# Altium integrated library ISSI SRAM CellularRAM-Pseudo SRAM.IntLib: 34 symbols (part 2 of 2)
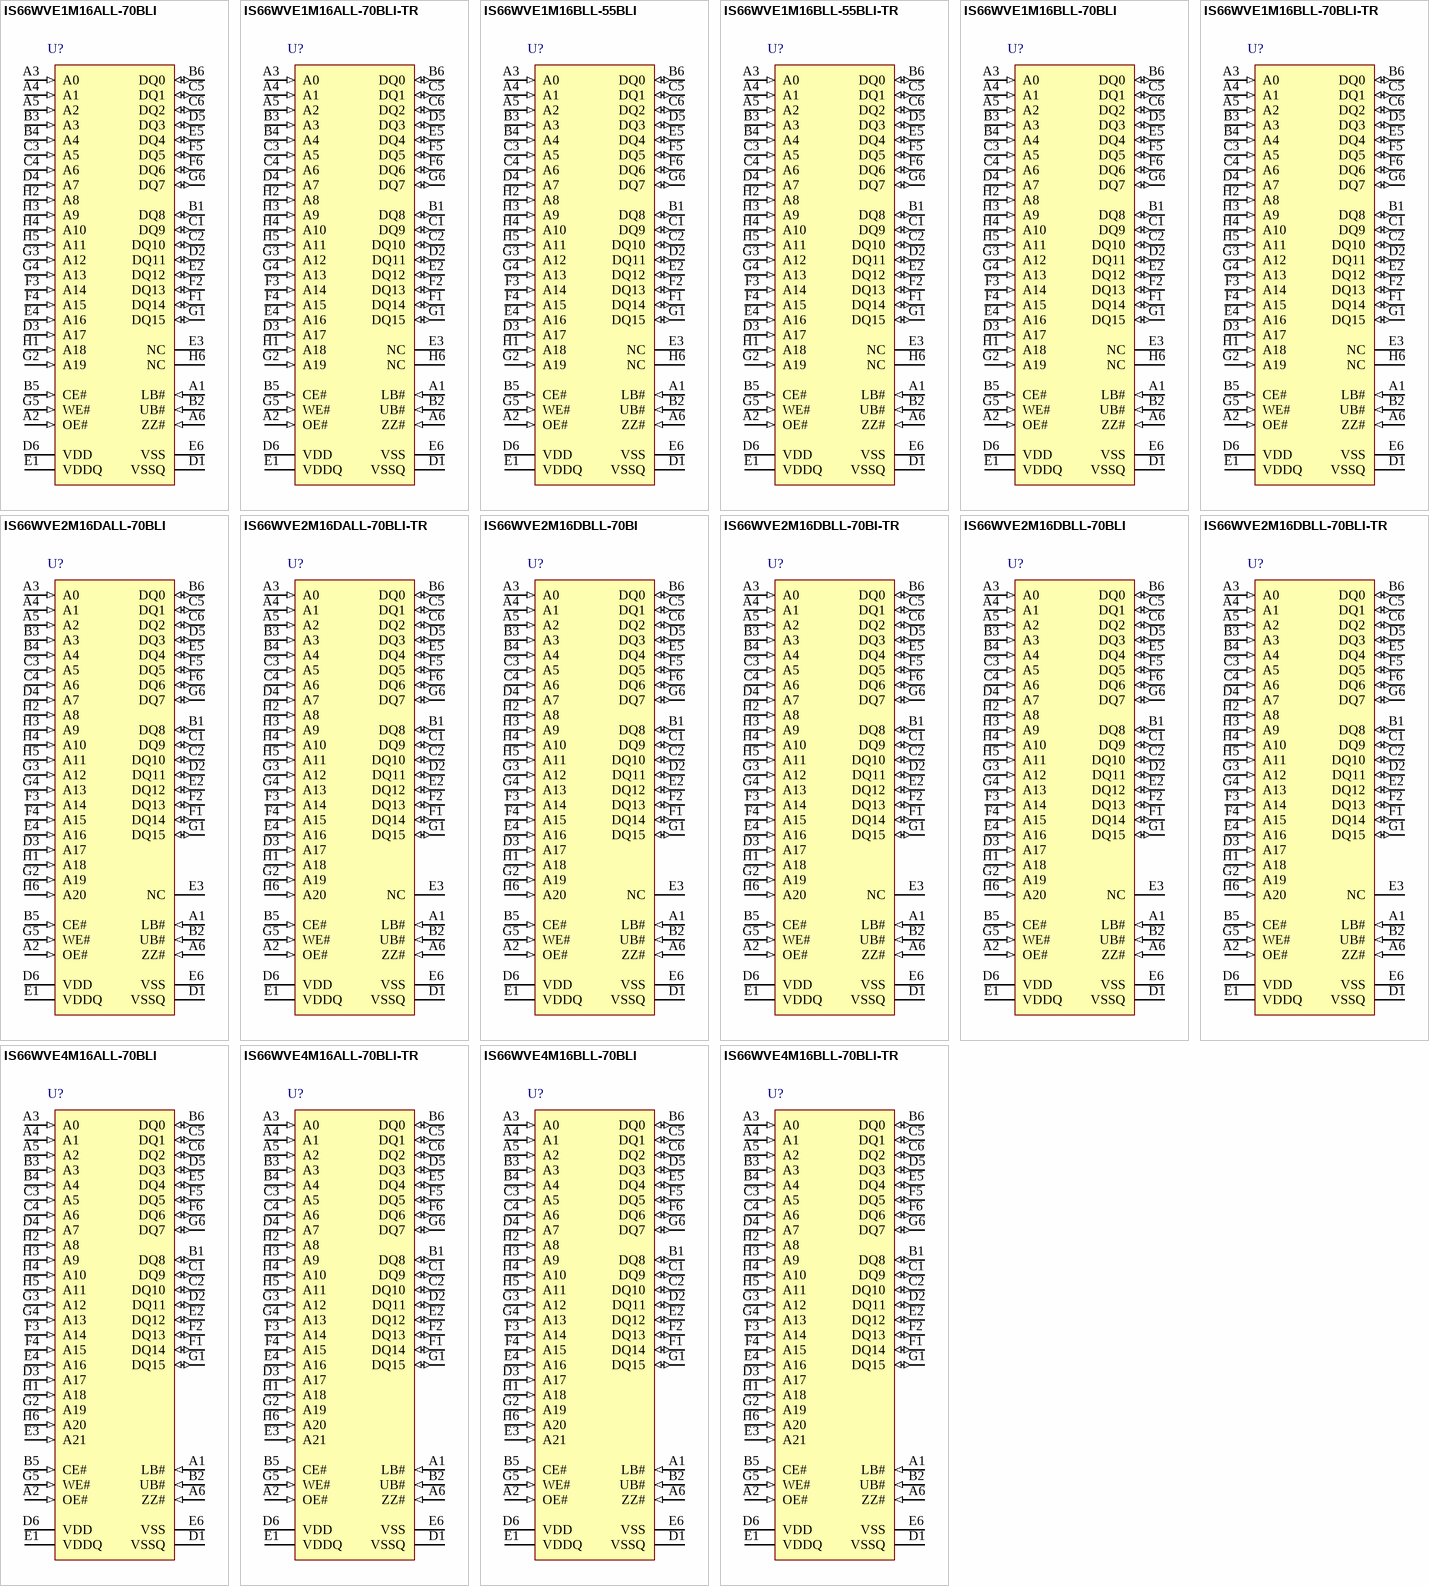
[diagram p2: symbols IS66WVE1M16ALL-70BLI to IS66WVE4M16BLL-70BLI-TR]

## IS66WVE1M16ALL-70BLI-TR
designator U?
16 M 1.8 V Core Async / Page PSRAM, 1 M x 16, -40 to 85 degC, 48-Pin BGA (TF-BGA-48), Pb-Free; Manufacturer: Integrated Silicon Solution Inc (ISSI); PartNumber: IS66WVE1M16ALL-70BLI-TR; Density: 16M; Organization: 1M x 16; Packing: Tape & Reel; Speed (ns): 70; DatasheetVersion: Rev. C; PackageVersion: Rev. C, 08/2008; PackageReference: TF-BGA-48; PackageDescription: 48-Pin 6 x 8 mm TF-BGA, Pitch 0.75 mm; RoHS: Pb-Free; Mounting Technology: Surface Mount; Code_JEDEC: MO-207; ComponentLink1Description: Manufacturer URL; ComponentLink1URL: http://www.issi.com/US/index.shtml; ComponentLink2Description: Datasheet; ComponentLink2URL: http://www.issi.com/WW/pdf/66WVE1M16ALL.pdf; ComponentLink3Description: Package Specification; ComponentLink3URL: http://www.issi.com/WW/pdf/61-64WV25616.pdf
footprint ISSI-TF-BGA-48-6000X8000DE (BGA, 48-Balls, Body 8x6mm, Pitch 0.75mm)
pins: A1 LB# (in) "Lower Byte select", A2 OE# (in) "Output Enable", A3 A0 (in) "Address Input", A4 A1 (in) "Address Input", A5 A2 (in) "Address Input", A6 ZZ# (in) "Sleep enable : When ZZ# is LOW, the CR can be loaded, or the device can enter one of two low-power modes ( DPD or PAR).", B1 DQ8 (io) "Data Input/Output", B2 UB# (in) "Upper Byte select", B3 A3 (in) "Address Input", B4 A4 (in) "Address Input", B5 CE# (in) "Chip Enable/Select", B6 DQ0 (io) "Data Input/Output", C1 DQ9 (io) "Data Input/Output", C2 DQ10 (io) "Data Input/Output", C3 A5 (in) "Address Input", C4 A6 (in) "Address Input", C5 DQ1 (io) "Data Input/Output", C6 DQ2 (io) "Data Input/Output", D1 VSSQ (power) "All VSSQ supply pins must be connected to Ground", D2 DQ11 (io) "Data Input/Output", D3 A17 (in) "Address Input", D4 A7 (in) "Address Input", D5 DQ3 (io) "Data Input/Output", D6 VDD (power) "Core Power supply (1.7V~1.95V)", E1 VDDQ (power) "I/OPower supply(1.7V~1.95V)", E2 DQ12 (io) "Data Input/Output", E3 NC "No Connection", E4 A16 (in) "Address Input", E5 DQ4 (io) "Data Input/Output", E6 VSS (power) "All VSS supply pins must be connected to Ground", F1 DQ14 (io) "Data Input/Output", F2 DQ13 (io) "Data Input/Output", F3 A14 (in) "Address Input", F4 A15 (in) "Address Input", F5 DQ5 (io) "Data Input/Output", F6 DQ6 (io) "Data Input/Output", G1 DQ15 (io) "Data Input/Output", G2 A19 (in) "Address Input", G3 A12 (in) "Address Input", G4 A13 (in) "Address Input", G5 WE# (in) "Write Enable", G6 DQ7 (io) "Data Input/Output", H1 A18 (in) "Address Input", H2 A8 (in) "Address Input", H3 A9 (in) "Address Input", H4 A10 (in) "Address Input", H5 A11 (in) "Address Input", H6 NC "No Connection"

## IS66WVE1M16BLL-55BLI
designator U?
16 M 3.0 V Core Async / Page PSRAM, 1 M x 16, -40 to 85 degC, 48-Pin BGA (TF-BGA-48), Pb-Free; Manufacturer: Integrated Silicon Solution Inc (ISSI); PartNumber: IS66WVE1M16BLL-55BLI; Density: 16M; Organization: 1M x 16; Packing: Tray / Tube; Speed (ns): 55; DatasheetVersion: Rev. A; PackageVersion: Rev. C, 08/2008; PackageReference: TF-BGA-48; PackageDescription: 48-Pin 6 x 8 mm TF-BGA, Pitch 0.75 mm; Supplier 1: Newark; Supplier Part Number 1: 18W6962; Supplier 2: Mouser; Supplier Part Number 2: 870-66VE1M16BLL55BLI; RoHS: Pb-Free; Mounting Technology: Surface Mount; Code_JEDEC: MO-207; ComponentLink1Description: Manufacturer URL; ComponentLink1URL: http://www.issi.com/US/index.shtml; ComponentLink2Description: Datasheet; ComponentLink2URL: http://www.issi.com/WW/pdf/66WVE1M16BLL.pdf; ComponentLink3Description: Package Specification; ComponentLink3URL: http://www.issi.com/WW/pdf/61-64WV25616.pdf
footprint ISSI-TF-BGA-48-6000X8000DE (BGA, 48-Balls, Body 8x6mm, Pitch 0.75mm)
pins: A1 LB# (in) "Lower Byte select", A2 OE# (in) "Address Input", A3 A0 (in) "Address Input", A4 A1 (in) "Address Input", A5 A2 (in) "Address Input", A6 ZZ# (in) "Sleep enable : When ZZ# is LOW, the CR can be loaded, or the device can enter one of two low-power modes ( DPD or PAR).", B1 DQ8 (io) "Data Inputs/Outputs", B2 UB# (in) "Upper Byte select", B3 A3 (in) "Address Input", B4 A4 (in) "Address Input", B5 CE# (in) "Chip Enable/Select", B6 DQ0 (io) "Data Inputs/Outputs", C1 DQ9 (io) "Data Inputs/Outputs", C2 DQ10 (io) "Data Inputs/Outputs", C3 A5 (in) "Address Input", C4 A6 (in) "Address Input", C5 DQ1 (io) "Data Inputs/Outputs", C6 DQ2 (io) "Data Inputs/Outputs", D1 VSSQ (power) "All VSSQ supply pins must be connected to Ground", D2 DQ11 (io) "Data Inputs/Outputs", D3 A17 (in) "Address Input", D4 A7 (in) "Address Input", D5 DQ3 (io) "Data Inputs/Outputs", D6 VDD (power) "Core Power supply (2.7V~3.6V)", E1 VDDQ (power) "I/O Power supply (2.7V~3.6V)", E2 DQ12 (io) "Data Inputs/Outputs", E3 NC, E4 A16 (in) "Address Input", E5 DQ4 (io) "Data Inputs/Outputs", E6 VSS (power) "All VSS supply pins must be connected to Ground", F1 DQ14 (io) "Data Inputs/Outputs", F2 DQ13 (io) "Data Inputs/Outputs", F3 A14 (in) "Address Input", F4 A15 (in) "Address Input", F5 DQ5 (io) "Data Inputs/Outputs", F6 DQ6 (io) "Data Inputs/Outputs", G1 DQ15 (io) "Data Inputs/Outputs", G2 A19 (in) "Address Input", G3 A12 (in) "Address Input", G4 A13 (in) "Address Input", G5 WE# (in) "Write Enable", G6 DQ7 (io) "Data Inputs/Outputs", H1 A18 (in) "Address Input", H2 A8 (in) "Address Input", H3 A9 (in) "Address Input", H4 A10 (in) "Address Input", H5 A11 (in) "Address Input", H6 NC

## IS66WVE1M16BLL-55BLI-TR
designator U?
16 M 3.0 V Core Async / Page PSRAM, 1 M x 16, -40 to 85 degC, 48-Pin BGA (TF-BGA-48), Pb-Free; Manufacturer: Integrated Silicon Solution Inc (ISSI); PartNumber: IS66WVE1M16BLL-55BLI-TR; Density: 16M; Organization: 1M x 16; Packing: Tape & Reel; Speed (ns): 55; DatasheetVersion: Rev. A; PackageVersion: Rev. C, 08/2008; PackageReference: TF-BGA-48; PackageDescription: 48-Pin 6 x 8 mm TF-BGA, Pitch 0.75 mm; Supplier 1: Newark; Supplier Part Number 1: 18W6963; Supplier 2: Mouser; Supplier Part Number 2: 870-66WVE1M1655BLITR; RoHS: Pb-Free; Mounting Technology: Surface Mount; Code_JEDEC: MO-207; ComponentLink1Description: Manufacturer URL; ComponentLink1URL: http://www.issi.com/US/index.shtml; ComponentLink2Description: Datasheet; ComponentLink2URL: http://www.issi.com/WW/pdf/66WVE1M16BLL.pdf; ComponentLink3Description: Package Specification; ComponentLink3URL: http://www.issi.com/WW/pdf/61-64WV25616.pdf
footprint ISSI-TF-BGA-48-6000X8000DE (BGA, 48-Balls, Body 8x6mm, Pitch 0.75mm)
pins: A1 LB# (in) "Lower Byte select", A2 OE# (in) "Address Input", A3 A0 (in) "Address Input", A4 A1 (in) "Address Input", A5 A2 (in) "Address Input", A6 ZZ# (in) "Sleep enable : When ZZ# is LOW, the CR can be loaded, or the device can enter one of two low-power modes ( DPD or PAR).", B1 DQ8 (io) "Data Inputs/Outputs", B2 UB# (in) "Upper Byte select", B3 A3 (in) "Address Input", B4 A4 (in) "Address Input", B5 CE# (in) "Chip Enable/Select", B6 DQ0 (io) "Data Inputs/Outputs", C1 DQ9 (io) "Data Inputs/Outputs", C2 DQ10 (io) "Data Inputs/Outputs", C3 A5 (in) "Address Input", C4 A6 (in) "Address Input", C5 DQ1 (io) "Data Inputs/Outputs", C6 DQ2 (io) "Data Inputs/Outputs", D1 VSSQ (power) "All VSSQ supply pins must be connected to Ground", D2 DQ11 (io) "Data Inputs/Outputs", D3 A17 (in) "Address Input", D4 A7 (in) "Address Input", D5 DQ3 (io) "Data Inputs/Outputs", D6 VDD (power) "Core Power supply (2.7V~3.6V)", E1 VDDQ (power) "I/O Power supply (2.7V~3.6V)", E2 DQ12 (io) "Data Inputs/Outputs", E3 NC, E4 A16 (in) "Address Input", E5 DQ4 (io) "Data Inputs/Outputs", E6 VSS (power) "All VSS supply pins must be connected to Ground", F1 DQ14 (io) "Data Inputs/Outputs", F2 DQ13 (io) "Data Inputs/Outputs", F3 A14 (in) "Address Input", F4 A15 (in) "Address Input", F5 DQ5 (io) "Data Inputs/Outputs", F6 DQ6 (io) "Data Inputs/Outputs", G1 DQ15 (io) "Data Inputs/Outputs", G2 A19 (in) "Address Input", G3 A12 (in) "Address Input", G4 A13 (in) "Address Input", G5 WE# (in) "Write Enable", G6 DQ7 (io) "Data Inputs/Outputs", H1 A18 (in) "Address Input", H2 A8 (in) "Address Input", H3 A9 (in) "Address Input", H4 A10 (in) "Address Input", H5 A11 (in) "Address Input", H6 NC

## IS66WVE1M16BLL-70BLI
designator U?
16 M 3.0 V Core Async / Page PSRAM, 1 M x 16, -40 to 85 degC, 48-Pin BGA (TF-BGA-48), Pb-Free; Manufacturer: Integrated Silicon Solution Inc (ISSI); PartNumber: IS66WVE1M16BLL-70BLI; Density: 16M; Organization: 1M x 16; Packing: Tray / Tube; Speed (ns): 70; DatasheetVersion: Rev. A; PackageVersion: Rev. C, 08/2008; PackageReference: TF-BGA-48; PackageDescription: 48-Pin 6 x 8 mm TF-BGA, Pitch 0.75 mm; RoHS: Pb-Free; Mounting Technology: Surface Mount; Code_JEDEC: MO-207; ComponentLink1Description: Manufacturer URL; ComponentLink1URL: http://www.issi.com/US/index.shtml; ComponentLink2Description: Datasheet; ComponentLink2URL: http://www.issi.com/WW/pdf/66WVE1M16BLL.pdf; ComponentLink3Description: Package Specification; ComponentLink3URL: http://www.issi.com/WW/pdf/61-64WV25616.pdf
footprint ISSI-TF-BGA-48-6000X8000DE (BGA, 48-Balls, Body 8x6mm, Pitch 0.75mm)
pins: A1 LB# (in) "Lower Byte select", A2 OE# (in) "Address Input", A3 A0 (in) "Address Input", A4 A1 (in) "Address Input", A5 A2 (in) "Address Input", A6 ZZ# (in) "Sleep enable : When ZZ# is LOW, the CR can be loaded, or the device can enter one of two low-power modes ( DPD or PAR).", B1 DQ8 (io) "Data Inputs/Outputs", B2 UB# (in) "Upper Byte select", B3 A3 (in) "Address Input", B4 A4 (in) "Address Input", B5 CE# (in) "Chip Enable/Select", B6 DQ0 (io) "Data Inputs/Outputs", C1 DQ9 (io) "Data Inputs/Outputs", C2 DQ10 (io) "Data Inputs/Outputs", C3 A5 (in) "Address Input", C4 A6 (in) "Address Input", C5 DQ1 (io) "Data Inputs/Outputs", C6 DQ2 (io) "Data Inputs/Outputs", D1 VSSQ (power) "All VSSQ supply pins must be connected to Ground", D2 DQ11 (io) "Data Inputs/Outputs", D3 A17 (in) "Address Input", D4 A7 (in) "Address Input", D5 DQ3 (io) "Data Inputs/Outputs", D6 VDD (power) "Core Power supply (2.7V~3.6V)", E1 VDDQ (power) "I/O Power supply (2.7V~3.6V)", E2 DQ12 (io) "Data Inputs/Outputs", E3 NC, E4 A16 (in) "Address Input", E5 DQ4 (io) "Data Inputs/Outputs", E6 VSS (power) "All VSS supply pins must be connected to Ground", F1 DQ14 (io) "Data Inputs/Outputs", F2 DQ13 (io) "Data Inputs/Outputs", F3 A14 (in) "Address Input", F4 A15 (in) "Address Input", F5 DQ5 (io) "Data Inputs/Outputs", F6 DQ6 (io) "Data Inputs/Outputs", G1 DQ15 (io) "Data Inputs/Outputs", G2 A19 (in) "Address Input", G3 A12 (in) "Address Input", G4 A13 (in) "Address Input", G5 WE# (in) "Write Enable", G6 DQ7 (io) "Data Inputs/Outputs", H1 A18 (in) "Address Input", H2 A8 (in) "Address Input", H3 A9 (in) "Address Input", H4 A10 (in) "Address Input", H5 A11 (in) "Address Input", H6 NC

## IS66WVE1M16BLL-70BLI-TR
designator U?
16 M 3.0 V Core Async / Page PSRAM, 1 M x 16, -40 to 85 degC, 48-Pin BGA (TF-BGA-48), Pb-Free; Manufacturer: Integrated Silicon Solution Inc (ISSI); PartNumber: IS66WVE1M16BLL-70BLI-TR; Density: 16M; Organization: 1M x 16; Packing: Tape & Reel; Speed (ns): 70; DatasheetVersion: Rev. A; PackageVersion: Rev. C, 08/2008; PackageReference: TF-BGA-48; PackageDescription: 48-Pin 6 x 8 mm TF-BGA, Pitch 0.75 mm; RoHS: Pb-Free; Mounting Technology: Surface Mount; Code_JEDEC: MO-207; ComponentLink1Description: Manufacturer URL; ComponentLink1URL: http://www.issi.com/US/index.shtml; ComponentLink2Description: Datasheet; ComponentLink2URL: http://www.issi.com/WW/pdf/66WVE1M16BLL.pdf; ComponentLink3Description: Package Specification; ComponentLink3URL: http://www.issi.com/WW/pdf/61-64WV25616.pdf
footprint ISSI-TF-BGA-48-6000X8000DE (BGA, 48-Balls, Body 8x6mm, Pitch 0.75mm)
pins: A1 LB# (in) "Lower Byte select", A2 OE# (in) "Address Input", A3 A0 (in) "Address Input", A4 A1 (in) "Address Input", A5 A2 (in) "Address Input", A6 ZZ# (in) "Sleep enable : When ZZ# is LOW, the CR can be loaded, or the device can enter one of two low-power modes ( DPD or PAR).", B1 DQ8 (io) "Data Inputs/Outputs", B2 UB# (in) "Upper Byte select", B3 A3 (in) "Address Input", B4 A4 (in) "Address Input", B5 CE# (in) "Chip Enable/Select", B6 DQ0 (io) "Data Inputs/Outputs", C1 DQ9 (io) "Data Inputs/Outputs", C2 DQ10 (io) "Data Inputs/Outputs", C3 A5 (in) "Address Input", C4 A6 (in) "Address Input", C5 DQ1 (io) "Data Inputs/Outputs", C6 DQ2 (io) "Data Inputs/Outputs", D1 VSSQ (power) "All VSSQ supply pins must be connected to Ground", D2 DQ11 (io) "Data Inputs/Outputs", D3 A17 (in) "Address Input", D4 A7 (in) "Address Input", D5 DQ3 (io) "Data Inputs/Outputs", D6 VDD (power) "Core Power supply (2.7V~3.6V)", E1 VDDQ (power) "I/O Power supply (2.7V~3.6V)", E2 DQ12 (io) "Data Inputs/Outputs", E3 NC, E4 A16 (in) "Address Input", E5 DQ4 (io) "Data Inputs/Outputs", E6 VSS (power) "All VSS supply pins must be connected to Ground", F1 DQ14 (io) "Data Inputs/Outputs", F2 DQ13 (io) "Data Inputs/Outputs", F3 A14 (in) "Address Input", F4 A15 (in) "Address Input", F5 DQ5 (io) "Data Inputs/Outputs", F6 DQ6 (io) "Data Inputs/Outputs", G1 DQ15 (io) "Data Inputs/Outputs", G2 A19 (in) "Address Input", G3 A12 (in) "Address Input", G4 A13 (in) "Address Input", G5 WE# (in) "Write Enable", G6 DQ7 (io) "Data Inputs/Outputs", H1 A18 (in) "Address Input", H2 A8 (in) "Address Input", H3 A9 (in) "Address Input", H4 A10 (in) "Address Input", H5 A11 (in) "Address Input", H6 NC

## IS66WVE2M16DALL-70BLI
designator U?
32 M 1.8 V Core Async / Page PSRAM, 2 M x 16, -40 to 85 degC, 48-Pin BGA (TF-BGA-48), Pb-Free; Manufacturer: Integrated Silicon Solution Inc (ISSI); PartNumber: IS66WVE2M16DALL-70BLI; Density: 32M; Organization: 2M x 16; Packing: Tray / Tube; Speed (ns): 70; DatasheetVersion: Rev. B; PackageVersion: Rev. C, 08/2008; PackageReference: TF-BGA-48; PackageDescription: 48-Pin 6 x 8 mm TF-BGA, Pitch 0.75 mm; RoHS: Pb-Free; Mounting Technology: Surface Mount; Code_JEDEC: MO-207; ComponentLink1Description: Manufacturer URL; ComponentLink1URL: http://www.issi.com/US/index.shtml; ComponentLink2Description: Datasheet; ComponentLink2URL: http://www.issi.com/WW/pdf/66WVE2M16DALL.pdf; ComponentLink3Description: Package Specification; ComponentLink3URL: http://www.issi.com/WW/pdf/61-64WV25616.pdf
footprint ISSI-TF-BGA-48-6000X8000DE (BGA, 48-Balls, Body 8x6mm, Pitch 0.75mm)
pins: A1 LB# (in) "Lower Byte select", A2 OE# (in) "Address Input", A3 A0 (in) "Address Input", A4 A1 (in) "Address Input", A5 A2 (in) "Address Input", A6 ZZ# (in) "Sleep enable : When ZZ# is LOW, the CR can be loaded, or the device can enter one of two low-power modes ( DPD or PAR).", B1 DQ8 (io) "Data Inputs/Outputs", B2 UB# (in) "Upper Byte select", B3 A3 (in) "Address Input", B4 A4 (in) "Address Input", B5 CE# (in) "Chip Enable/Select", B6 DQ0 (io) "Data Inputs/Outputs", C1 DQ9 (io) "Data Inputs/Outputs", C2 DQ10 (io) "Data Inputs/Outputs", C3 A5 (in) "Address Input", C4 A6 (in) "Address Input", C5 DQ1 (io) "Data Inputs/Outputs", C6 DQ2 (io) "Data Inputs/Outputs", D1 VSSQ (power) "All VSSQ supply pins must be connected to Ground", D2 DQ11 (io) "Data Inputs/Outputs", D3 A17 (in) "Address Input", D4 A7 (in) "Address Input", D5 DQ3 (io) "Data Inputs/Outputs", D6 VDD (power) "Core Power supply (2.7V~3.6V)", E1 VDDQ (power) "I/O Power supply (2.7V~3.6V)", E2 DQ12 (io) "Data Inputs/Outputs", E3 NC, E4 A16 (in) "Address Input", E5 DQ4 (io) "Data Inputs/Outputs", E6 VSS (power) "All VSS supply pins must be connected to Ground", F1 DQ14 (io) "Data Inputs/Outputs", F2 DQ13 (io) "Data Inputs/Outputs", F3 A14 (in) "Address Input", F4 A15 (in) "Address Input", F5 DQ5 (io) "Data Inputs/Outputs", F6 DQ6 (io) "Data Inputs/Outputs", G1 DQ15 (io) "Data Inputs/Outputs", G2 A19 (in) "Address Input", G3 A12 (in) "Address Input", G4 A13 (in) "Address Input", G5 WE# (in) "Write Enable", G6 DQ7 (io) "Data Inputs/Outputs", H1 A18 (in) "Address Input", H2 A8 (in) "Address Input", H3 A9 (in) "Address Input", H4 A10 (in) "Address Input", H5 A11 (in) "Address Input", H6 A20 (in)

## IS66WVE2M16DALL-70BLI-TR
designator U?
32 M 1.8 V Core Async / Page PSRAM, 2 M x 16, -40 to 85 degC, 48-Pin BGA (TF-BGA-48), Pb-Free; Manufacturer: Integrated Silicon Solution Inc (ISSI); PartNumber: IS66WVE2M16DALL-70BLI-TR; Density: 32M; Organization: 2M x 16; Packing: Tape & Reel; Speed (ns): 70; DatasheetVersion: Rev. B; PackageVersion: Rev. C, 08/2008; PackageReference: TF-BGA-48; PackageDescription: 48-Pin 6 x 8 mm TF-BGA, Pitch 0.75 mm; RoHS: Pb-Free; Mounting Technology: Surface Mount; Code_JEDEC: MO-207; ComponentLink1Description: Manufacturer URL; ComponentLink1URL: http://www.issi.com/US/index.shtml; ComponentLink2Description: Datasheet; ComponentLink2URL: http://www.issi.com/WW/pdf/66WVE2M16DALL.pdf; ComponentLink3Description: Package Specification; ComponentLink3URL: http://www.issi.com/WW/pdf/61-64WV25616.pdf
footprint ISSI-TF-BGA-48-6000X8000DE (BGA, 48-Balls, Body 8x6mm, Pitch 0.75mm)
pins: A1 LB# (in) "Lower Byte select", A2 OE# (in) "Address Input", A3 A0 (in) "Address Input", A4 A1 (in) "Address Input", A5 A2 (in) "Address Input", A6 ZZ# (in) "Sleep enable : When ZZ# is LOW, the CR can be loaded, or the device can enter one of two low-power modes ( DPD or PAR).", B1 DQ8 (io) "Data Inputs/Outputs", B2 UB# (in) "Upper Byte select", B3 A3 (in) "Address Input", B4 A4 (in) "Address Input", B5 CE# (in) "Chip Enable/Select", B6 DQ0 (io) "Data Inputs/Outputs", C1 DQ9 (io) "Data Inputs/Outputs", C2 DQ10 (io) "Data Inputs/Outputs", C3 A5 (in) "Address Input", C4 A6 (in) "Address Input", C5 DQ1 (io) "Data Inputs/Outputs", C6 DQ2 (io) "Data Inputs/Outputs", D1 VSSQ (power) "All VSSQ supply pins must be connected to Ground", D2 DQ11 (io) "Data Inputs/Outputs", D3 A17 (in) "Address Input", D4 A7 (in) "Address Input", D5 DQ3 (io) "Data Inputs/Outputs", D6 VDD (power) "Core Power supply (2.7V~3.6V)", E1 VDDQ (power) "I/O Power supply (2.7V~3.6V)", E2 DQ12 (io) "Data Inputs/Outputs", E3 NC, E4 A16 (in) "Address Input", E5 DQ4 (io) "Data Inputs/Outputs", E6 VSS (power) "All VSS supply pins must be connected to Ground", F1 DQ14 (io) "Data Inputs/Outputs", F2 DQ13 (io) "Data Inputs/Outputs", F3 A14 (in) "Address Input", F4 A15 (in) "Address Input", F5 DQ5 (io) "Data Inputs/Outputs", F6 DQ6 (io) "Data Inputs/Outputs", G1 DQ15 (io) "Data Inputs/Outputs", G2 A19 (in) "Address Input", G3 A12 (in) "Address Input", G4 A13 (in) "Address Input", G5 WE# (in) "Write Enable", G6 DQ7 (io) "Data Inputs/Outputs", H1 A18 (in) "Address Input", H2 A8 (in) "Address Input", H3 A9 (in) "Address Input", H4 A10 (in) "Address Input", H5 A11 (in) "Address Input", H6 A20 (in)

## IS66WVE2M16DBLL-70BI
designator U?
32 M 3.0 V Core Async / Page PSRAM, 2 M x 16, -40 to 85 degC, 48-Pin BGA (TF-BGA-48); Manufacturer: Integrated Silicon Solution Inc (ISSI); PartNumber: IS66WVE2M16DBLL-70BI; Density: 32M; Organization: 2M x 16; Packing: Tray / Tube; Speed (ns): 70; DatasheetVersion: Rev. A; PackageVersion: Rev. C, 08/2008; PackageReference: TF-BGA-48; PackageDescription: 48-Pin 6 x 8 mm TF-BGA, Pitch 0.75 mm; Mounting Technology: Surface Mount; Code_JEDEC: MO-207; ComponentLink1Description: Manufacturer URL; ComponentLink1URL: http://www.issi.com/US/index.shtml; ComponentLink2Description: Datasheet; ComponentLink2URL: http://www.issi.com/WW/pdf/66WVE2M16DBLL.pdf; ComponentLink3Description: Package Specification; ComponentLink3URL: http://www.issi.com/WW/pdf/61-64WV25616.pdf
footprint ISSI-TF-BGA-48-6000X8000DE (BGA, 48-Balls, Body 8x6mm, Pitch 0.75mm)
pins: A1 LB# (in) "Lower Byte select", A2 OE# (in) "Address Input", A3 A0 (in) "Address Input", A4 A1 (in) "Address Input", A5 A2 (in) "Address Input", A6 ZZ# (in) "Sleep enable : When ZZ# is LOW, the CR can be loaded, or the device can enter one of two low-power modes ( DPD or PAR).", B1 DQ8 (io) "Data Inputs/Outputs", B2 UB# (in) "Upper Byte select", B3 A3 (in) "Address Input", B4 A4 (in) "Address Input", B5 CE# (in) "Chip Enable/Select", B6 DQ0 (io) "Data Inputs/Outputs", C1 DQ9 (io) "Data Inputs/Outputs", C2 DQ10 (io) "Data Inputs/Outputs", C3 A5 (in) "Address Input", C4 A6 (in) "Address Input", C5 DQ1 (io) "Data Inputs/Outputs", C6 DQ2 (io) "Data Inputs/Outputs", D1 VSSQ (power) "All VSSQ supply pins must be connected to Ground", D2 DQ11 (io) "Data Inputs/Outputs", D3 A17 (in) "Address Input", D4 A7 (in) "Address Input", D5 DQ3 (io) "Data Inputs/Outputs", D6 VDD (power) "Core Power supply (2.7V~3.6V)", E1 VDDQ (power) "I/O Power supply (2.7V~3.6V)", E2 DQ12 (io) "Data Inputs/Outputs", E3 NC, E4 A16 (in) "Address Input", E5 DQ4 (io) "Data Inputs/Outputs", E6 VSS (power) "All VSS supply pins must be connected to Ground", F1 DQ14 (io) "Data Inputs/Outputs", F2 DQ13 (io) "Data Inputs/Outputs", F3 A14 (in) "Address Input", F4 A15 (in) "Address Input", F5 DQ5 (io) "Data Inputs/Outputs", F6 DQ6 (io) "Data Inputs/Outputs", G1 DQ15 (io) "Data Inputs/Outputs", G2 A19 (in) "Address Input", G3 A12 (in) "Address Input", G4 A13 (in) "Address Input", G5 WE# (in) "Write Enable", G6 DQ7 (io) "Data Inputs/Outputs", H1 A18 (in) "Address Input", H2 A8 (in) "Address Input", H3 A9 (in) "Address Input", H4 A10 (in) "Address Input", H5 A11 (in) "Address Input", H6 A20 (in)

## IS66WVE2M16DBLL-70BI-TR
designator U?
32 M 3.0 V Core Async / Page PSRAM, 2 M x 16, -40 to 85 degC, 48-Pin BGA (TF-BGA-48); Manufacturer: Integrated Silicon Solution Inc (ISSI); PartNumber: IS66WVE2M16DBLL-70BI-TR; Density: 32M; Organization: 2M x 16; Packing: Tape & Reel; Speed (ns): 70; DatasheetVersion: Rev. A; PackageVersion: Rev. C, 08/2008; PackageReference: TF-BGA-48; PackageDescription: 48-Pin 6 x 8 mm TF-BGA, Pitch 0.75 mm; Mounting Technology: Surface Mount; Code_JEDEC: MO-207; ComponentLink1Description: Manufacturer URL; ComponentLink1URL: http://www.issi.com/US/index.shtml; ComponentLink2Description: Datasheet; ComponentLink2URL: http://www.issi.com/WW/pdf/66WVE2M16DBLL.pdf; ComponentLink3Description: Package Specification; ComponentLink3URL: http://www.issi.com/WW/pdf/61-64WV25616.pdf
footprint ISSI-TF-BGA-48-6000X8000DE (BGA, 48-Balls, Body 8x6mm, Pitch 0.75mm)
pins: A1 LB# (in) "Lower Byte select", A2 OE# (in) "Address Input", A3 A0 (in) "Address Input", A4 A1 (in) "Address Input", A5 A2 (in) "Address Input", A6 ZZ# (in) "Sleep enable : When ZZ# is LOW, the CR can be loaded, or the device can enter one of two low-power modes ( DPD or PAR).", B1 DQ8 (io) "Data Inputs/Outputs", B2 UB# (in) "Upper Byte select", B3 A3 (in) "Address Input", B4 A4 (in) "Address Input", B5 CE# (in) "Chip Enable/Select", B6 DQ0 (io) "Data Inputs/Outputs", C1 DQ9 (io) "Data Inputs/Outputs", C2 DQ10 (io) "Data Inputs/Outputs", C3 A5 (in) "Address Input", C4 A6 (in) "Address Input", C5 DQ1 (io) "Data Inputs/Outputs", C6 DQ2 (io) "Data Inputs/Outputs", D1 VSSQ (power) "All VSSQ supply pins must be connected to Ground", D2 DQ11 (io) "Data Inputs/Outputs", D3 A17 (in) "Address Input", D4 A7 (in) "Address Input", D5 DQ3 (io) "Data Inputs/Outputs", D6 VDD (power) "Core Power supply (2.7V~3.6V)", E1 VDDQ (power) "I/O Power supply (2.7V~3.6V)", E2 DQ12 (io) "Data Inputs/Outputs", E3 NC, E4 A16 (in) "Address Input", E5 DQ4 (io) "Data Inputs/Outputs", E6 VSS (power) "All VSS supply pins must be connected to Ground", F1 DQ14 (io) "Data Inputs/Outputs", F2 DQ13 (io) "Data Inputs/Outputs", F3 A14 (in) "Address Input", F4 A15 (in) "Address Input", F5 DQ5 (io) "Data Inputs/Outputs", F6 DQ6 (io) "Data Inputs/Outputs", G1 DQ15 (io) "Data Inputs/Outputs", G2 A19 (in) "Address Input", G3 A12 (in) "Address Input", G4 A13 (in) "Address Input", G5 WE# (in) "Write Enable", G6 DQ7 (io) "Data Inputs/Outputs", H1 A18 (in) "Address Input", H2 A8 (in) "Address Input", H3 A9 (in) "Address Input", H4 A10 (in) "Address Input", H5 A11 (in) "Address Input", H6 A20 (in)

## IS66WVE2M16DBLL-70BLI
designator U?
32 M 3.0 V Core Async / Page PSRAM, 2 M x 16, -40 to 85 degC, 48-Pin BGA (TF-BGA-48), Pb-Free; Manufacturer: Integrated Silicon Solution Inc (ISSI); PartNumber: IS66WVE2M16DBLL-70BLI; Density: 32M; Organization: 2M x 16; Packing: Tray / Tube; Speed (ns): 70; DatasheetVersion: Rev. A; PackageVersion: Rev. C, 08/2008; PackageReference: TF-BGA-48; PackageDescription: 48-Pin 6 x 8 mm TF-BGA, Pitch 0.75 mm; Supplier 1: Mouser; Supplier Part Number 1: 870-6WVE2M16BLL70BLI; RoHS: Pb-Free; Mounting Technology: Surface Mount; Code_JEDEC: MO-207; ComponentLink1Description: Manufacturer URL; ComponentLink1URL: http://www.issi.com/US/index.shtml; ComponentLink2Description: Datasheet; ComponentLink2URL: http://www.issi.com/WW/pdf/66WVE2M16DBLL.pdf; ComponentLink3Description: Package Specification; ComponentLink3URL: http://www.issi.com/WW/pdf/61-64WV25616.pdf
footprint ISSI-TF-BGA-48-6000X8000DE (BGA, 48-Balls, Body 8x6mm, Pitch 0.75mm)
pins: A1 LB# (in) "Lower Byte select", A2 OE# (in) "Address Input", A3 A0 (in) "Address Input", A4 A1 (in) "Address Input", A5 A2 (in) "Address Input", A6 ZZ# (in) "Sleep enable : When ZZ# is LOW, the CR can be loaded, or the device can enter one of two low-power modes ( DPD or PAR).", B1 DQ8 (io) "Data Inputs/Outputs", B2 UB# (in) "Upper Byte select", B3 A3 (in) "Address Input", B4 A4 (in) "Address Input", B5 CE# (in) "Chip Enable/Select", B6 DQ0 (io) "Data Inputs/Outputs", C1 DQ9 (io) "Data Inputs/Outputs", C2 DQ10 (io) "Data Inputs/Outputs", C3 A5 (in) "Address Input", C4 A6 (in) "Address Input", C5 DQ1 (io) "Data Inputs/Outputs", C6 DQ2 (io) "Data Inputs/Outputs", D1 VSSQ (power) "All VSSQ supply pins must be connected to Ground", D2 DQ11 (io) "Data Inputs/Outputs", D3 A17 (in) "Address Input", D4 A7 (in) "Address Input", D5 DQ3 (io) "Data Inputs/Outputs", D6 VDD (power) "Core Power supply (2.7V~3.6V)", E1 VDDQ (power) "I/O Power supply (2.7V~3.6V)", E2 DQ12 (io) "Data Inputs/Outputs", E3 NC, E4 A16 (in) "Address Input", E5 DQ4 (io) "Data Inputs/Outputs", E6 VSS (power) "All VSS supply pins must be connected to Ground", F1 DQ14 (io) "Data Inputs/Outputs", F2 DQ13 (io) "Data Inputs/Outputs", F3 A14 (in) "Address Input", F4 A15 (in) "Address Input", F5 DQ5 (io) "Data Inputs/Outputs", F6 DQ6 (io) "Data Inputs/Outputs", G1 DQ15 (io) "Data Inputs/Outputs", G2 A19 (in) "Address Input", G3 A12 (in) "Address Input", G4 A13 (in) "Address Input", G5 WE# (in) "Write Enable", G6 DQ7 (io) "Data Inputs/Outputs", H1 A18 (in) "Address Input", H2 A8 (in) "Address Input", H3 A9 (in) "Address Input", H4 A10 (in) "Address Input", H5 A11 (in) "Address Input", H6 A20 (in)

## IS66WVE2M16DBLL-70BLI-TR
designator U?
32 M 3.0 V Core Async / Page PSRAM, 2 M x 16, -40 to 85 degC, 48-Pin BGA (TF-BGA-48), Pb-Free; Manufacturer: Integrated Silicon Solution Inc (ISSI); PartNumber: IS66WVE2M16DBLL-70BLI-TR; Density: 32M; Organization: 2M x 16; Packing: Tape & Reel; Speed (ns): 70; DatasheetVersion: Rev. A; PackageVersion: Rev. C, 08/2008; PackageReference: TF-BGA-48; PackageDescription: 48-Pin 6 x 8 mm TF-BGA, Pitch 0.75 mm; Supplier 1: Mouser; Supplier Part Number 1: 870-6WVE2M16DL70BLIT; RoHS: Pb-Free; Mounting Technology: Surface Mount; Code_JEDEC: MO-207; ComponentLink1Description: Manufacturer URL; ComponentLink1URL: http://www.issi.com/US/index.shtml; ComponentLink2Description: Datasheet; ComponentLink2URL: http://www.issi.com/WW/pdf/66WVE2M16DBLL.pdf; ComponentLink3Description: Package Specification; ComponentLink3URL: http://www.issi.com/WW/pdf/61-64WV25616.pdf
footprint ISSI-TF-BGA-48-6000X8000DE (BGA, 48-Balls, Body 8x6mm, Pitch 0.75mm)
pins: A1 LB# (in) "Lower Byte select", A2 OE# (in) "Address Input", A3 A0 (in) "Address Input", A4 A1 (in) "Address Input", A5 A2 (in) "Address Input", A6 ZZ# (in) "Sleep enable : When ZZ# is LOW, the CR can be loaded, or the device can enter one of two low-power modes ( DPD or PAR).", B1 DQ8 (io) "Data Inputs/Outputs", B2 UB# (in) "Upper Byte select", B3 A3 (in) "Address Input", B4 A4 (in) "Address Input", B5 CE# (in) "Chip Enable/Select", B6 DQ0 (io) "Data Inputs/Outputs", C1 DQ9 (io) "Data Inputs/Outputs", C2 DQ10 (io) "Data Inputs/Outputs", C3 A5 (in) "Address Input", C4 A6 (in) "Address Input", C5 DQ1 (io) "Data Inputs/Outputs", C6 DQ2 (io) "Data Inputs/Outputs", D1 VSSQ (power) "All VSSQ supply pins must be connected to Ground", D2 DQ11 (io) "Data Inputs/Outputs", D3 A17 (in) "Address Input", D4 A7 (in) "Address Input", D5 DQ3 (io) "Data Inputs/Outputs", D6 VDD (power) "Core Power supply (2.7V~3.6V)", E1 VDDQ (power) "I/O Power supply (2.7V~3.6V)", E2 DQ12 (io) "Data Inputs/Outputs", E3 NC, E4 A16 (in) "Address Input", E5 DQ4 (io) "Data Inputs/Outputs", E6 VSS (power) "All VSS supply pins must be connected to Ground", F1 DQ14 (io) "Data Inputs/Outputs", F2 DQ13 (io) "Data Inputs/Outputs", F3 A14 (in) "Address Input", F4 A15 (in) "Address Input", F5 DQ5 (io) "Data Inputs/Outputs", F6 DQ6 (io) "Data Inputs/Outputs", G1 DQ15 (io) "Data Inputs/Outputs", G2 A19 (in) "Address Input", G3 A12 (in) "Address Input", G4 A13 (in) "Address Input", G5 WE# (in) "Write Enable", G6 DQ7 (io) "Data Inputs/Outputs", H1 A18 (in) "Address Input", H2 A8 (in) "Address Input", H3 A9 (in) "Address Input", H4 A10 (in) "Address Input", H5 A11 (in) "Address Input", H6 A20 (in)

## IS66WVE4M16ALL-70BLI
designator U?
64 M 1.8 V Core Async / Page PSRAM, 4 M x 16, -40 to 85 degC, 48-Pin BGA (TF-BGA-48), Pb-Free; Manufacturer: Integrated Silicon Solution Inc (ISSI); PartNumber: IS66WVE4M16ALL-70BLI; Density: 64M; Organization: 4M x 16; Packing: Tray / Tube; Speed (ns): 70; DatasheetVersion: Rev. B; PackageVersion: Rev. C, 08/2008; PackageReference: TF-BGA-48; PackageDescription: 48-Pin 6 x 8 mm TF-BGA, Pitch 0.75 mm; RoHS: Pb-Free; Mounting Technology: Surface Mount; Code_JEDEC: MO-207; ComponentLink1Description: Manufacturer URL; ComponentLink1URL: http://www.issi.com/US/index.shtml; ComponentLink2Description: Datasheet; ComponentLink2URL: http://www.issi.com/WW/pdf/66WVE4M16ALL.pdf; ComponentLink3Description: Package Specification; ComponentLink3URL: http://www.issi.com/WW/pdf/61-64WV25616.pdf
footprint ISSI-TF-BGA-48-6000X8000DE (BGA, 48-Balls, Body 8x6mm, Pitch 0.75mm)
pins: A1 LB# (in) "Lower Byte select", A2 OE# (in) "Output Enable", A3 A0 (in) "Address Input", A4 A1 (in) "Address Input", A5 A2 (in) "Address Input", A6 ZZ# (in) "Sleep enable : When ZZ# is LOW, the CR can be loaded, or the device can enter one of two low-power modes ( DPD or PAR).", B1 DQ8 (io) "Data Inputs/Output", B2 UB# (in) "Upper Byte select", B3 A3 (in) "Address Input", B4 A4 (in) "Address Input", B5 CE# (in) "Chip Enable/Select", B6 DQ0 (io) "Data Inputs/Output", C1 DQ9 (io) "Data Inputs/Output", C2 DQ10 (io) "Data Inputs/Output", C3 A5 (in) "Address Input", C4 A6 (in) "Address Input", C5 DQ1 (io) "Data Inputs/Output", C6 DQ2 (io) "Data Inputs/Output", D1 VSSQ (power) "All VSSQ supply pins must be connected to Ground", D2 DQ11 (io) "Data Inputs/Output", D3 A17 (in) "Address Input", D4 A7 (in) "Address Input", D5 DQ3 (io) "Data Inputs/Output", D6 VDD (power) "Core Power supply (2.7V~3.6V)", E1 VDDQ (power) "I/O Power supply (2.7V~3.6V)", E2 DQ12 (io) "Data Inputs/Output", E3 A21 (in) "Address Input", E4 A16 (in) "Address Input", E5 DQ4 (io) "Data Inputs/Output", E6 VSS (power) "All VSS supply pins must be connected to Ground", F1 DQ14 (io) "Data Inputs/Output", F2 DQ13 (io) "Data Inputs/Output", F3 A14 (in) "Address Input", F4 A15 (in) "Address Input", F5 DQ5 (io) "Data Inputs/Output", F6 DQ6 (io) "Data Inputs/Output", G1 DQ15 (io) "Data Inputs/Output", G2 A19 (in) "Address Input", G3 A12 (in) "Address Input", G4 A13 (in) "Address Input", G5 WE# (in) "Write Enable", G6 DQ7 (io) "Data Inputs/Output", H1 A18 (in) "Address Input", H2 A8 (in) "Address Input", H3 A9 (in) "Address Input", H4 A10 (in) "Address Input", H5 A11 (in) "Address Input", H6 A20 (in) "Address Input"

## IS66WVE4M16ALL-70BLI-TR
designator U?
64 M 1.8 V Core Async / Page PSRAM, 4 M x 16, -40 to 85 degC, 48-Pin BGA (TF-BGA-48), Pb-Free; Manufacturer: Integrated Silicon Solution Inc (ISSI); PartNumber: IS66WVE4M16ALL-70BLI-TR; Density: 64M; Organization: 4M x 16; Packing: Tape & Reel; Speed (ns): 70; DatasheetVersion: Rev. B; PackageVersion: Rev. C, 08/2008; PackageReference: TF-BGA-48; PackageDescription: 48-Pin 6 x 8 mm TF-BGA, Pitch 0.75 mm; RoHS: Pb-Free; Mounting Technology: Surface Mount; Code_JEDEC: MO-207; ComponentLink1Description: Manufacturer URL; ComponentLink1URL: http://www.issi.com/US/index.shtml; ComponentLink2Description: Datasheet; ComponentLink2URL: http://www.issi.com/WW/pdf/66WVE4M16ALL.pdf; ComponentLink3Description: Package Specification; ComponentLink3URL: http://www.issi.com/WW/pdf/61-64WV25616.pdf
footprint ISSI-TF-BGA-48-6000X8000DE (BGA, 48-Balls, Body 8x6mm, Pitch 0.75mm)
pins: A1 LB# (in) "Lower Byte select", A2 OE# (in) "Output Enable", A3 A0 (in) "Address Input", A4 A1 (in) "Address Input", A5 A2 (in) "Address Input", A6 ZZ# (in) "Sleep enable : When ZZ# is LOW, the CR can be loaded, or the device can enter one of two low-power modes ( DPD or PAR).", B1 DQ8 (io) "Data Inputs/Output", B2 UB# (in) "Upper Byte select", B3 A3 (in) "Address Input", B4 A4 (in) "Address Input", B5 CE# (in) "Chip Enable/Select", B6 DQ0 (io) "Data Inputs/Output", C1 DQ9 (io) "Data Inputs/Output", C2 DQ10 (io) "Data Inputs/Output", C3 A5 (in) "Address Input", C4 A6 (in) "Address Input", C5 DQ1 (io) "Data Inputs/Output", C6 DQ2 (io) "Data Inputs/Output", D1 VSSQ (power) "All VSSQ supply pins must be connected to Ground", D2 DQ11 (io) "Data Inputs/Output", D3 A17 (in) "Address Input", D4 A7 (in) "Address Input", D5 DQ3 (io) "Data Inputs/Output", D6 VDD (power) "Core Power supply (2.7V~3.6V)", E1 VDDQ (power) "I/O Power supply (2.7V~3.6V)", E2 DQ12 (io) "Data Inputs/Output", E3 A21 (in) "Address Input", E4 A16 (in) "Address Input", E5 DQ4 (io) "Data Inputs/Output", E6 VSS (power) "All VSS supply pins must be connected to Ground", F1 DQ14 (io) "Data Inputs/Output", F2 DQ13 (io) "Data Inputs/Output", F3 A14 (in) "Address Input", F4 A15 (in) "Address Input", F5 DQ5 (io) "Data Inputs/Output", F6 DQ6 (io) "Data Inputs/Output", G1 DQ15 (io) "Data Inputs/Output", G2 A19 (in) "Address Input", G3 A12 (in) "Address Input", G4 A13 (in) "Address Input", G5 WE# (in) "Write Enable", G6 DQ7 (io) "Data Inputs/Output", H1 A18 (in) "Address Input", H2 A8 (in) "Address Input", H3 A9 (in) "Address Input", H4 A10 (in) "Address Input", H5 A11 (in) "Address Input", H6 A20 (in) "Address Input"

## IS66WVE4M16BLL-70BLI
designator U?
64 M 3.0 V Core Async / Page PSRAM, 4 M x 16, -40 to 85 degC, 48-Pin BGA (TF-BGA-48), Pb-Free; Manufacturer: Integrated Silicon Solution Inc (ISSI); PartNumber: IS66WVE4M16BLL-70BLI; Density: 64M; Organization: 4M x 16; Packing: Tray / Tube; Speed (ns): 70; DatasheetVersion: Rev. A; PackageVersion: Rev. C, 08/2008; PackageReference: TF-BGA-48; PackageDescription: 48-Pin 6 x 8 mm TF-BGA, Pitch 0.75 mm; Supplier 1: Newark; Supplier Part Number 1: 24T8371; Supplier 2: Mouser; Supplier Part Number 2: 870-66WVE4M16BLL70BL; RoHS: Pb-Free; Mounting Technology: Surface Mount; Code_JEDEC: MO-207; ComponentLink1Description: Manufacturer URL; ComponentLink1URL: http://www.issi.com/US/index.shtml; ComponentLink2Description: Datasheet; ComponentLink2URL: http://www.issi.com/WW/pdf/66WVE4M16BLL.pdf; ComponentLink3Description: Package Specification; ComponentLink3URL: http://www.issi.com/WW/pdf/61-64WV25616.pdf
footprint ISSI-TF-BGA-48-6000X8000DE (BGA, 48-Balls, Body 8x6mm, Pitch 0.75mm)
pins: A1 LB# (in) "Lower Byte select", A2 OE# (in) "Output Enable", A3 A0 (in) "Address Input", A4 A1 (in) "Address Input", A5 A2 (in) "Address Input", A6 ZZ# (in) "Sleep enable : When ZZ# is LOW, the CR can be loaded, or the device can enter one of two low-power modes ( DPD or PAR).", B1 DQ8 (io) "Data Inputs/Output", B2 UB# (in) "Upper Byte select", B3 A3 (in) "Address Input", B4 A4 (in) "Address Input", B5 CE# (in) "Chip Enable/Select", B6 DQ0 (io) "Data Inputs/Output", C1 DQ9 (io) "Data Inputs/Output", C2 DQ10 (io) "Data Inputs/Output", C3 A5 (in) "Address Input", C4 A6 (in) "Address Input", C5 DQ1 (io) "Data Inputs/Output", C6 DQ2 (io) "Data Inputs/Output", D1 VSSQ (power) "All VSSQ supply pins must be connected to Ground", D2 DQ11 (io) "Data Inputs/Output", D3 A17 (in) "Address Input", D4 A7 (in) "Address Input", D5 DQ3 (io) "Data Inputs/Output", D6 VDD (power) "Core Power supply (2.7V~3.6V)", E1 VDDQ (power) "I/O Power supply (2.7V~3.6V)", E2 DQ12 (io) "Data Inputs/Output", E3 A21 (in) "Address Input", E4 A16 (in) "Address Input", E5 DQ4 (io) "Data Inputs/Output", E6 VSS (power) "All VSS supply pins must be connected to Ground", F1 DQ14 (io) "Data Inputs/Output", F2 DQ13 (io) "Data Inputs/Output", F3 A14 (in) "Address Input", F4 A15 (in) "Address Input", F5 DQ5 (io) "Data Inputs/Output", F6 DQ6 (io) "Data Inputs/Output", G1 DQ15 (io) "Data Inputs/Output", G2 A19 (in) "Address Input", G3 A12 (in) "Address Input", G4 A13 (in) "Address Input", G5 WE# (in) "Write Enable", G6 DQ7 (io) "Data Inputs/Output", H1 A18 (in) "Address Input", H2 A8 (in) "Address Input", H3 A9 (in) "Address Input", H4 A10 (in) "Address Input", H5 A11 (in) "Address Input", H6 A20 (in) "Address Input"

## IS66WVE4M16BLL-70BLI-TR
designator U?
64 M 3.0 V Core Async / Page PSRAM, 4 M x 16, -40 to 85 degC, 48-Pin BGA (TF-BGA-48), Pb-Free; Manufacturer: Integrated Silicon Solution Inc (ISSI); PartNumber: IS66WVE4M16BLL-70BLI-TR; Density: 64M; Organization: 4M x 16; Packing: Tape & Reel; Speed (ns): 70; DatasheetVersion: Rev. A; PackageVersion: Rev. C, 08/2008; PackageReference: TF-BGA-48; PackageDescription: 48-Pin 6 x 8 mm TF-BGA, Pitch 0.75 mm; Supplier 1: Newark; Supplier Part Number 1: 24T8372; Supplier 2: Mouser; Supplier Part Number 2: 870-66WVE4M16BL70BLT; RoHS: Pb-Free; Mounting Technology: Surface Mount; Code_JEDEC: MO-207; ComponentLink1Description: Manufacturer URL; ComponentLink1URL: http://www.issi.com/US/index.shtml; ComponentLink2Description: Datasheet; ComponentLink2URL: http://www.issi.com/WW/pdf/66WVE4M16BLL.pdf; ComponentLink3Description: Package Specification; ComponentLink3URL: http://www.issi.com/WW/pdf/61-64WV25616.pdf
footprint ISSI-TF-BGA-48-6000X8000DE (BGA, 48-Balls, Body 8x6mm, Pitch 0.75mm)
pins: A1 LB# (in) "Lower Byte select", A2 OE# (in) "Output Enable", A3 A0 (in) "Address Input", A4 A1 (in) "Address Input", A5 A2 (in) "Address Input", A6 ZZ# (in) "Sleep enable : When ZZ# is LOW, the CR can be loaded, or the device can enter one of two low-power modes ( DPD or PAR).", B1 DQ8 (io) "Data Inputs/Output", B2 UB# (in) "Upper Byte select", B3 A3 (in) "Address Input", B4 A4 (in) "Address Input", B5 CE# (in) "Chip Enable/Select", B6 DQ0 (io) "Data Inputs/Output", C1 DQ9 (io) "Data Inputs/Output", C2 DQ10 (io) "Data Inputs/Output", C3 A5 (in) "Address Input", C4 A6 (in) "Address Input", C5 DQ1 (io) "Data Inputs/Output", C6 DQ2 (io) "Data Inputs/Output", D1 VSSQ (power) "All VSSQ supply pins must be connected to Ground", D2 DQ11 (io) "Data Inputs/Output", D3 A17 (in) "Address Input", D4 A7 (in) "Address Input", D5 DQ3 (io) "Data Inputs/Output", D6 VDD (power) "Core Power supply (2.7V~3.6V)", E1 VDDQ (power) "I/O Power supply (2.7V~3.6V)", E2 DQ12 (io) "Data Inputs/Output", E3 A21 (in) "Address Input", E4 A16 (in) "Address Input", E5 DQ4 (io) "Data Inputs/Output", E6 VSS (power) "All VSS supply pins must be connected to Ground", F1 DQ14 (io) "Data Inputs/Output", F2 DQ13 (io) "Data Inputs/Output", F3 A14 (in) "Address Input", F4 A15 (in) "Address Input", F5 DQ5 (io) "Data Inputs/Output", F6 DQ6 (io) "Data Inputs/Output", G1 DQ15 (io) "Data Inputs/Output", G2 A19 (in) "Address Input", G3 A12 (in) "Address Input", G4 A13 (in) "Address Input", G5 WE# (in) "Write Enable", G6 DQ7 (io) "Data Inputs/Output", H1 A18 (in) "Address Input", H2 A8 (in) "Address Input", H3 A9 (in) "Address Input", H4 A10 (in) "Address Input", H5 A11 (in) "Address Input", H6 A20 (in) "Address Input"